# Altium schematic symbol library yaokong.SchLib: 22 symbols
Pins are listed as number, name and electrical type; pins without a type are passive.

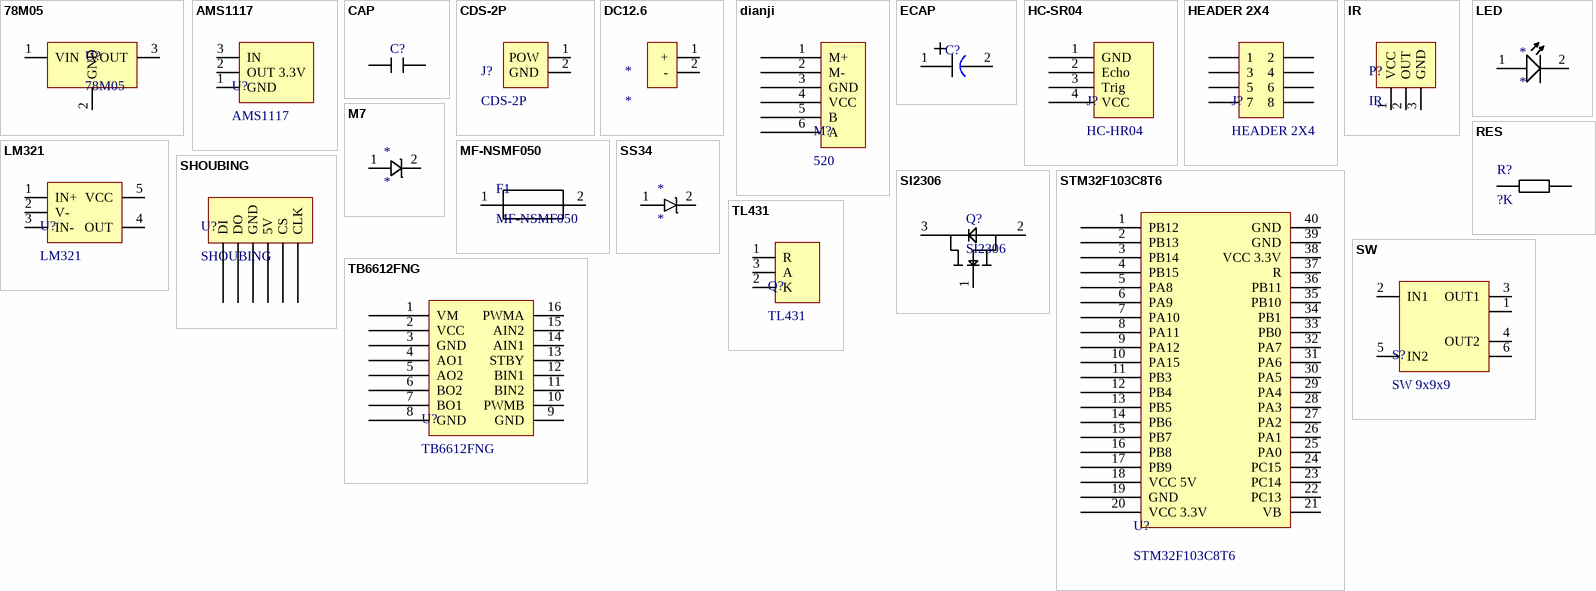
[diagram p0: symbols 78M05 to TL431]

## 78M05
designator U?
footprint 78M05
pins: 1 VIN, 2 GND, 3 VOUT

## AMS1117
designator U?
footprint AMS1117
pins: 1 GND, 2 OUT 3.3V, 3 IN

## CAP
designator C?  (value not drawn)
footprint CAP
pins: 1, 2

## CDS-2P
designator J?
footprint CDS-2P
pins: 1 POW, 2 GND

## DC12.6
designator *
footprint DC12.6
pins: 1 +, 2 -

## dianji
designator M?, comment 520
footprint PH2.0-6P
pins: 1 M+, 2 M-, 3 GND, 4 VCC, 5 B, 6 A

## ECAP
designator C?  (value not drawn)
footprint ECAP
pins: 1, 2

## HC-SR04
designator J?, comment HC-HR04
pins: 1 GND, 2 Echo, 3 Trig, 4 VCC

## HEADER 2X4
designator J?
footprint HEADER2*4
pins: 1, 2, 3, 4, 5, 6, 7, 8

## IR
designator P?
footprint HEADER3
pins: 1 VCC, 2 OUT, 3 GND

## LED
designator *
footprint LED
pins: 1, 2

## LM321
designator U?
footprint LM321
pins: 1 IN+, 2 V-, 3 IN-, 4 OUT, 5 VCC

## M7
designator *
footprint M7
pins: 1, 2

## MF-NSMF050
designator F1
footprint MF
pins: 1, 2

## RES
designator R?, comment ?K
footprint RES
pins: 1, 2

## SHOUBING
designator U?
footprint SHOUBING
pins: 1 DI, 2 DO, 3 GND, 4 5V, 5 CS, 6 CLK

## SI2306
designator Q?
footprint SI2306
pins: 1, 2, 3

## SS34
designator *
footprint SS34
pins: 1, 2

## STM32F103C8T6
designator U?
footprint STM32F103C8T6
pins: 1 PB12, 2 PB13, 3 PB14, 4 PB15, 5 PA8, 6 PA9, 7 PA10, 8 PA11, 9 PA12, 10 PA15, 11 PB3, 12 PB4, 13 PB5, 14 PB6, 15 PB7, 16 PB8, 17 PB9, 18 VCC 5V, 19 GND, 20 VCC 3.3V, 21 VB, 22 PC13, 23 PC14, 24 PC15, 25 PA0, 26 PA1, 27 PA2, 28 PA3, 29 PA4, 30 PA5, 31 PA6, 32 PA7, 33 PB0, 34 PB1, 35 PB10, 36 PB11, 37 R, 38 VCC 3.3V, 39 GND, 40 GND

## SW
designator S?, comment SW 9x9x9
footprint ZISUO
footprint ZISUO
pins: 1, 2 IN1, 3 OUT1, 4 OUT2, 5 IN2, 6

## TB6612FNG
designator U?
footprint TB6612FNG
pins: 1 VM, 2 VCC, 3 GND, 4 AO1, 5 AO2, 6 BO2, 7 BO1, 8 GND, 9 GND, 10 PWMB, 11 BIN2, 12 BIN1, 13 STBY, 14 AIN1, 15 AIN2, 16 PWMA

## TL431
designator Q?
footprint TO-92
pins: 1 R, 2 K, 3 A